# EAGLE library part MAX17048 (library 1_ZeroUI)
Micropower 1-Cell Li+ ModelGauge
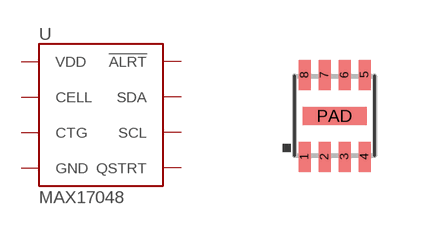
[diagram p16: symbol with the pads of DFN-8; footprint DFN-8]

Designator prefix -

## MAX17048DFN8  [DFN-8]
1  CTG  in
2  CELL  in
3  VDD
4  GND
5  !ALRT
6  QSTRT
7  SCL  out
8  SDA  in
PAD  GND

## Footprint DFN-8 (pad centres in mm)
Footprint based on information in: http://www.st.com/content/ccc/resource/technical/document/datasheet/61/46/87/01/98/ed/44/c5/CD00000464.pdf/files/CD00000464.pdf/jcr:content/translations/en.CD00000464.pdf Now follows http://pdfserv.maximintegrated.com/land_patterns/90-0065.PDF Pasted was reduced by 40% width on the center ground pad, and some amount on the other 8. Stop mask extends 135 µm wider than the pad to hit dead center of what IPC-7351 recommends.
smd 0.3 x 0.75: 1 -0.75,-1.025; 2 -0.25,-1.025; 3 0.25,-1.025; 4 0.75,-1.025; 5 0.75,1.025; 6 0.25,1.025; 7 -0.25,1.025; 8 -0.75,1.025
smd 1.6 x 0.45: PAD 0,0